# Altium footprint library Connector_PinHeader_1.27mm.PcbLib: 278 footprints (part 1 of 18)
Each footprint in its own frame and in the unit in brackets; x right, y up, seen from the top. Pads: shape width x height; smd on the part's side, far side on the other; paste and mask are expansions set on the pad; w line width, h text height; cw(c..) or ccw(c..) is an arc to the next point about the centre after c.
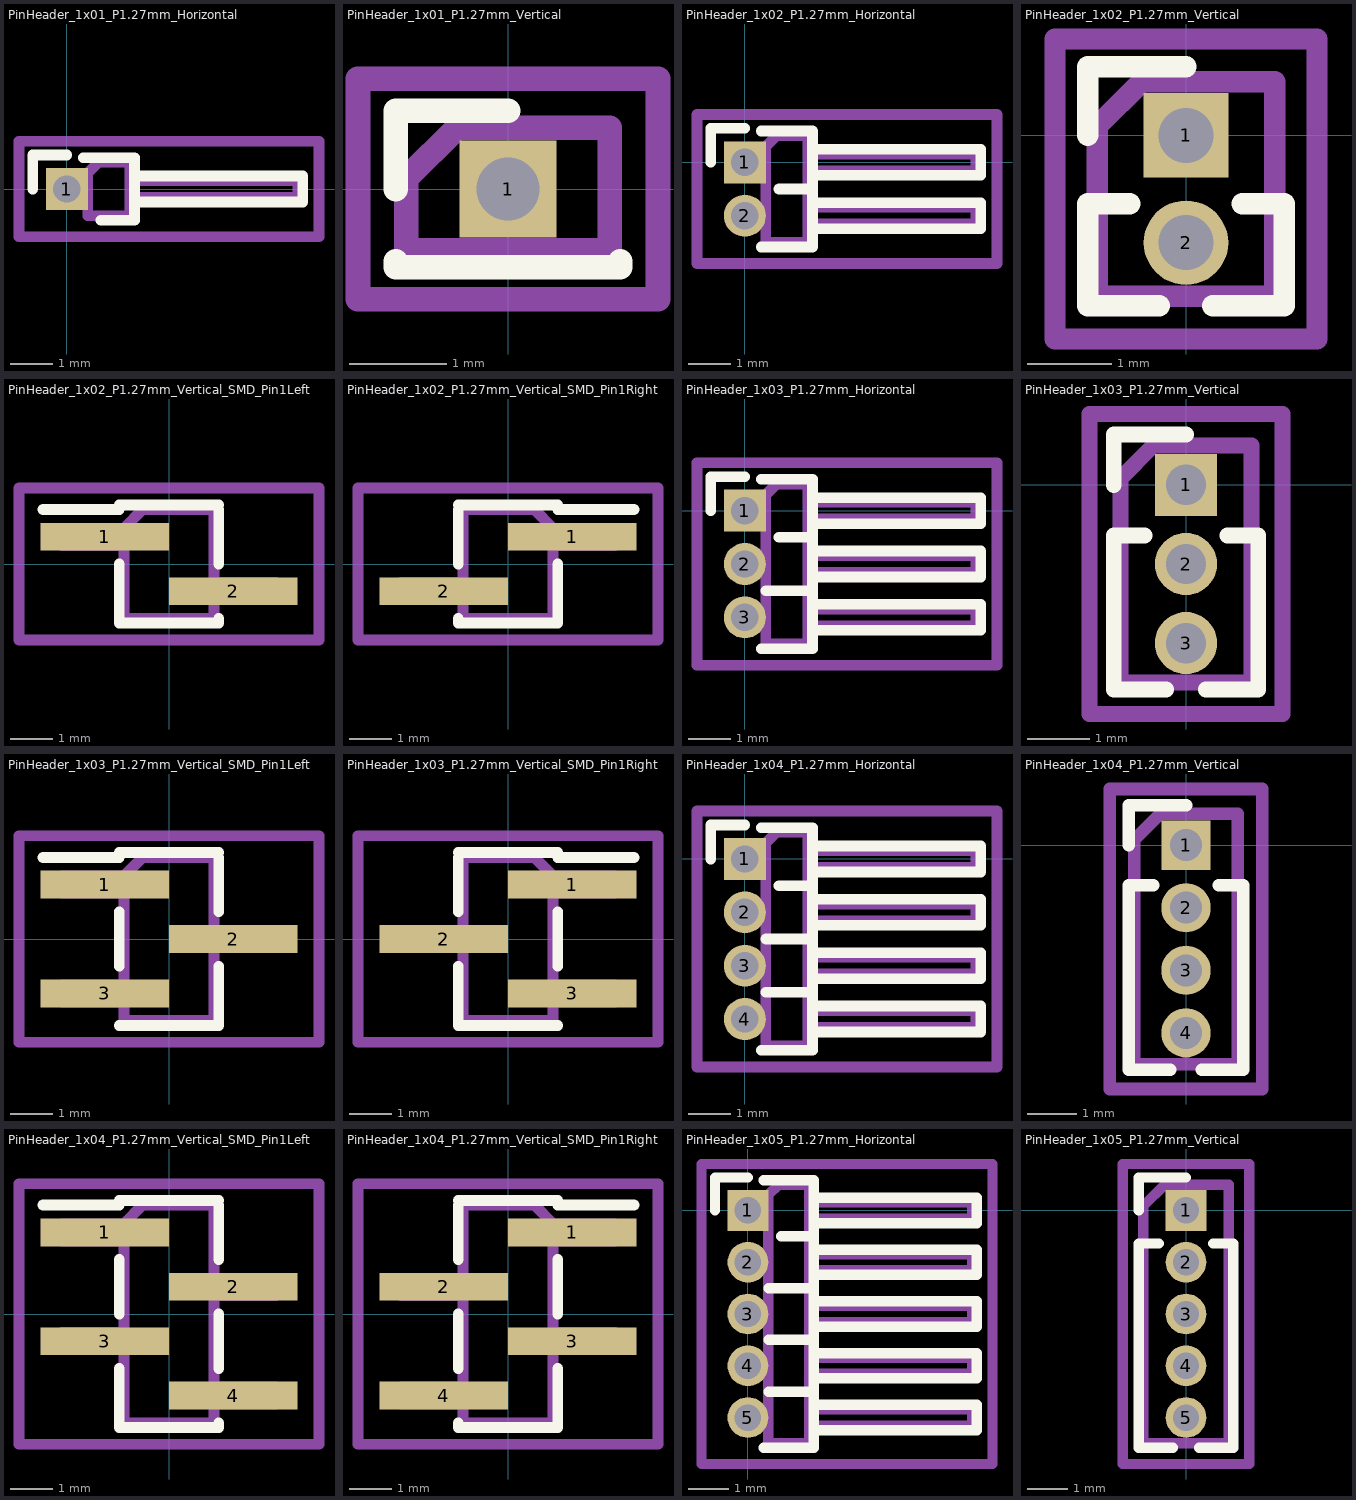
[diagram p0: the footprints below, top view; thin cyan lines are the x and y axes]

## PinHeader_1x01_P1.27mm_Horizontal [mm]
pads (1):
  rect 1x1 hole 0.65: 1(0,0)
F.SilkS:
  lines w0.254: -0.81,0 -0.81,0.81 0,0.81 ; 0.39,0.745 1.61,0.745 1.61,-0.745 0.81,-0.745 ; 1.61,-0.31 1.61,0.31 5.61,0.31 5.61,-0.31 1.61,-0.31
Top Assembly:
  lines w0.254: 0.5,-0.2 -0.2,-0.2 -0.2,0.2 0.5,0.2 ; 1.5,-0.2 5.5,-0.2 5.5,0.2 1.5,0.2 ; 0.5,-0.635 0.5,0.385 0.75,0.635 1.5,0.635 1.5,-0.635 0.5,-0.635
  text "'.Designator'" at 1.504,-2.428 h0.6
Top Courtyard:
  lines w0.254: -1.14,-1.14 -1.14,1.14 6,1.14 6,-1.14 -1.14,-1.14
Top Designator:
  text ".Designator" at -5.188,-0.598 h1.52

## PinHeader_1x01_P1.27mm_Vertical [mm]
pads (1):
  rect 1x1 hole 0.65: 1(0,0)
F.SilkS:
  lines w0.254: -1.16,-0.745 -1.16,-0.81 ; -1.16,0 -1.16,0.81 0,0.81 ; -0.667,-0.81 -1.16,-0.81 ; 0.667,-0.81 1.16,-0.81 ; 1.16,-0.745 1.16,-0.81 ; -1.16,-0.81 1.16,-0.81
Top Assembly:
  lines w0.254: -1.05,-0.635 1.05,-0.635 1.05,0.635 -0.525,0.635 -1.05,0.11 -1.05,-0.635
  text "'.Designator'" at 0.84,-4.047 h1
Top Courtyard:
  lines w0.254: -1.55,-1.14 1.55,-1.14 1.55,1.14 -1.55,1.14 -1.55,-1.14
Top Designator:
  text ".Designator" at -7.618,-0.658 h1.52

## PinHeader_1x02_P1.27mm_Horizontal [mm]
pads (2):
  rect 1x1 hole 0.65: 1(0,0)
  round 1 hole 0.65: 2(0,-1.27)
F.SilkS:
  lines w0.254: -0.81,0 -0.81,0.81 0,0.81 ; 0.39,-2.015 1.61,-2.015 1.61,0.745 0.39,0.745 ; 0.81,-0.635 1.61,-0.635 ; 1.61,-1.58 5.61,-1.58 5.61,-0.96 1.61,-0.96 ; 1.61,-0.31 5.61,-0.31 5.61,0.31 1.61,0.31 1.61,-0.31
Top Assembly:
  lines w0.254: 0.5,-1.47 -0.2,-1.47 -0.2,-1.07 0.5,-1.07 ; 0.5,-0.2 -0.2,-0.2 -0.2,0.2 0.5,0.2 ; 1.5,-1.47 5.5,-1.47 5.5,-1.07 1.5,-1.07 ; 1.5,-0.2 5.5,-0.2 5.5,0.2 1.5,0.2 ; 0.5,-1.905 1.5,-1.905 1.5,0.635 0.75,0.635 0.5,0.385 0.5,-1.905
  text "'.Designator'" at 1.504,-3.063 h0.6
Top Courtyard:
  lines w0.254: -1.14,-2.41 6,-2.41 6,1.14 -1.14,1.14 -1.14,-2.41
Top Designator:
  text ".Designator" at -5.188,-1.233 h1.52

## PinHeader_1x02_P1.27mm_Vertical [mm]
pads (2):
  rect 1x1 hole 0.65: 1(0,0)
  round 1 hole 0.65: 2(0,-1.27)
F.SilkS:
  lines w0.254: -1.16,0 -1.16,0.81 0,0.81 ; -0.667,-0.81 -1.16,-0.81 -1.16,-2.015 -0.318,-2.015 ; 0.318,-2.015 1.16,-2.015 1.16,-0.81 0.667,-0.81
Top Assembly:
  lines w0.254: -1.05,-1.905 1.05,-1.905 1.05,0.635 -0.525,0.635 -1.05,0.11 -1.05,-1.905
  text "'.Designator'" at 0.84,-4.682 h1
Top Courtyard:
  lines w0.254: -1.55,-2.41 1.55,-2.41 1.55,1.14 -1.55,1.14 -1.55,-2.41
Top Designator:
  text ".Designator" at -7.618,-1.293 h1.52

## PinHeader_1x02_P1.27mm_Vertical_SMD_Pin1Left [mm]
pads (2):
  rect 3x0.65 smd: 1(-1.5,0.635) 2(1.5,-0.635)
F.SilkS:
  lines w0.254: -2.94,1.27 -1.16,1.27 -1.16,1.38 1.16,1.38 ; -1.16,0 -1.16,-1.38 1.16,-1.38 1.16,-1.27 ; 1.16,0 1.16,1.27
Top Assembly:
  lines w0.254: -1.05,0.435 -2.5,0.435 -2.5,0.835 -1.05,0.835 ; 1.05,-0.835 2.5,-0.835 2.5,-0.435 1.05,-0.435 ; -1.05,0.835 -1.05,-1.27 1.05,-1.27 1.05,1.27 -0.615,1.27 -1.05,0.835
  text "'.Designator'" at 0.84,-4.047 h1
Top Courtyard:
  lines w0.254: -3.5,-1.77 3.5,-1.77 3.5,1.77 -3.5,1.77 -3.5,-1.77
Top Designator:
  text ".Designator" at -7.618,-0.658 h1.52

## PinHeader_1x02_P1.27mm_Vertical_SMD_Pin1Right [mm]
pads (2):
  rect 3x0.65 smd: 1(1.5,0.635) 2(-1.5,-0.635)
F.SilkS:
  lines w0.254: -1.16,-1.27 -1.16,-1.38 1.16,-1.38 1.16,0 ; -1.16,1.38 1.16,1.38 1.16,1.27 2.94,1.27 ; -1.16,0 -1.16,1.27 -1.16,0
Top Assembly:
  lines w0.254: -1.05,-0.835 -2.5,-0.835 -2.5,-0.435 -1.05,-0.435 ; 1.05,0.435 2.5,0.435 2.5,0.835 1.05,0.835 ; 1.05,0.835 1.05,-1.27 -1.05,-1.27 -1.05,1.27 0.615,1.27 1.05,0.835
  text "'.Designator'" at 0.84,-4.047 h1
Top Courtyard:
  lines w0.254: -3.5,-1.77 3.5,-1.77 3.5,1.77 -3.5,1.77 -3.5,-1.77
Top Designator:
  text ".Designator" at -7.618,-0.658 h1.52

## PinHeader_1x03_P1.27mm_Horizontal [mm]
pads (3):
  rect 1x1 hole 0.65: 1(0,0)
  round 1 hole 0.65: 2(0,-1.27) 3(0,-2.54)
F.SilkS:
  lines w0.254: -0.81,0 -0.81,0.81 0,0.81 ; 0.39,-3.285 1.61,-3.285 1.61,0.745 0.39,0.745 ; 0.503,-1.905 1.61,-1.905 ; 0.81,-0.635 1.61,-0.635 ; 1.61,-2.85 5.61,-2.85 5.61,-2.23 1.61,-2.23 ; 1.61,-1.58 5.61,-1.58 5.61,-0.96 1.61,-0.96 ; 1.61,-0.31 5.61,-0.31 5.61,0.31 1.61,0.31 1.61,-0.31
Top Assembly:
  lines w0.254: 0.5,-2.74 -0.2,-2.74 -0.2,-2.34 0.5,-2.34 ; 0.5,-1.47 -0.2,-1.47 -0.2,-1.07 0.5,-1.07 ; 0.5,-0.2 -0.2,-0.2 -0.2,0.2 0.5,0.2 ; 1.5,-2.74 5.5,-2.74 5.5,-2.34 1.5,-2.34 ; 1.5,-1.47 5.5,-1.47 5.5,-1.07 1.5,-1.07 ; 1.5,-0.2 5.5,-0.2 5.5,0.2 1.5,0.2 ; 0.5,-3.175 1.5,-3.175 1.5,0.635 0.75,0.635 0.5,0.385 0.5,-3.175
  text "'.Designator'" at 1.504,-3.698 h0.6
Top Courtyard:
  lines w0.254: -1.14,-3.68 6,-3.68 6,1.14 -1.14,1.14 -1.14,-3.68
Top Designator:
  text ".Designator" at -5.188,-1.778 h1.52

## PinHeader_1x03_P1.27mm_Vertical [mm]
pads (3):
  rect 1x1 hole 0.65: 1(0,0)
  round 1 hole 0.65: 2(0,-1.27) 3(0,-2.54)
F.SilkS:
  lines w0.254: -1.16,0 -1.16,0.81 0,0.81 ; -0.667,-0.81 -1.16,-0.81 -1.16,-3.285 -0.318,-3.285 ; 0.318,-3.285 1.16,-3.285 1.16,-0.81 0.667,-0.81
Top Assembly:
  lines w0.254: -1.05,-3.175 1.05,-3.175 1.05,0.635 -0.525,0.635 -1.05,0.11 -1.05,-3.175
  text "'.Designator'" at 0.84,-5.317 h1
Top Courtyard:
  lines w0.254: -1.55,-3.68 1.55,-3.68 1.55,1.14 -1.55,1.14 -1.55,-3.68
Top Designator:
  text ".Designator" at -7.618,-1.928 h1.52

## PinHeader_1x03_P1.27mm_Vertical_SMD_Pin1Left [mm]
pads (3):
  rect 3x0.65 smd: 1(-1.5,1.27) 2(1.5,0) 3(-1.5,-1.27)
F.SilkS:
  lines w0.254: -2.94,1.905 -1.16,1.905 -1.16,2.015 1.16,2.015 ; -1.16,-2.015 1.16,-2.015 ; -1.16,-0.635 -1.16,0.635 ; 1.16,-1.905 1.16,-2.015 ; 1.16,-0.635 1.16,-2.015 ; 1.16,0.635 1.16,1.905
Top Assembly:
  lines w0.254: -1.05,-1.47 -2.5,-1.47 -2.5,-1.07 -1.05,-1.07 ; -1.05,1.07 -2.5,1.07 -2.5,1.47 -1.05,1.47 ; 1.05,-0.2 2.5,-0.2 2.5,0.2 1.05,0.2 ; -1.05,1.47 -1.05,-1.905 1.05,-1.905 1.05,1.905 -0.615,1.905 -1.05,1.47
  text "'.Designator'" at 0.84,-4.047 h1
Top Courtyard:
  lines w0.254: -3.5,-2.41 3.5,-2.41 3.5,2.41 -3.5,2.41 -3.5,-2.41
Top Designator:
  text ".Designator" at -7.618,-0.658 h1.52

## PinHeader_1x03_P1.27mm_Vertical_SMD_Pin1Right [mm]
pads (3):
  rect 3x0.65 smd: 1(1.5,1.27) 2(-1.5,0) 3(1.5,-1.27)
F.SilkS:
  lines w0.254: -1.16,-1.905 -1.16,-2.015 ; -1.16,-0.635 -1.16,-2.015 ; -1.16,2.015 1.16,2.015 1.16,1.905 2.94,1.905 ; 1.16,-2.015 -1.16,-2.015 ; 1.16,-0.635 1.16,0.635 ; -1.16,0.635 -1.16,1.905 -1.16,0.635
Top Assembly:
  lines w0.254: -1.05,-0.2 -2.5,-0.2 -2.5,0.2 -1.05,0.2 ; 1.05,-1.47 2.5,-1.47 2.5,-1.07 1.05,-1.07 ; 1.05,1.07 2.5,1.07 2.5,1.47 1.05,1.47 ; 1.05,1.47 1.05,-1.905 -1.05,-1.905 -1.05,1.905 0.615,1.905 1.05,1.47
  text "'.Designator'" at 0.84,-4.047 h1
Top Courtyard:
  lines w0.254: -3.5,-2.41 3.5,-2.41 3.5,2.41 -3.5,2.41 -3.5,-2.41
Top Designator:
  text ".Designator" at -7.618,-0.658 h1.52

## PinHeader_1x04_P1.27mm_Horizontal [mm]
pads (4):
  rect 1x1 hole 0.65: 1(0,0)
  round 1 hole 0.65: 2(0,-1.27) 3(0,-2.54) 4(0,-3.81)
F.SilkS:
  lines w0.254: -0.81,0 -0.81,0.81 0,0.81 ; 0.39,-4.555 1.61,-4.555 1.61,0.745 0.39,0.745 ; 0.503,-3.175 1.61,-3.175 ; 0.503,-1.905 1.61,-1.905 ; 0.81,-0.635 1.61,-0.635 ; 1.61,-4.12 5.61,-4.12 5.61,-3.5 1.61,-3.5 ; 1.61,-2.85 5.61,-2.85 5.61,-2.23 1.61,-2.23 ; 1.61,-1.58 5.61,-1.58 5.61,-0.96 1.61,-0.96 ; 1.61,-0.31 5.61,-0.31 5.61,0.31 1.61,0.31 1.61,-0.31
Top Assembly:
  lines w0.254: 0.5,-4.01 -0.2,-4.01 -0.2,-3.61 0.5,-3.61 ; 0.5,-2.74 -0.2,-2.74 -0.2,-2.34 0.5,-2.34 ; 0.5,-1.47 -0.2,-1.47 -0.2,-1.07 0.5,-1.07 ; 0.5,-0.2 -0.2,-0.2 -0.2,0.2 0.5,0.2 ; 1.5,-4.01 5.5,-4.01 5.5,-3.61 1.5,-3.61 ; 1.5,-2.74 5.5,-2.74 5.5,-2.34 1.5,-2.34 ; 1.5,-1.47 5.5,-1.47 5.5,-1.07 1.5,-1.07 ; 1.5,-0.2 5.5,-0.2 5.5,0.2 1.5,0.2 ; 0.5,-4.445 1.5,-4.445 1.5,0.635 0.75,0.635 0.5,0.385 0.5,-4.445
  text "'.Designator'" at 1.504,-4.333 h0.6
Top Courtyard:
  lines w0.254: -1.14,-4.95 6,-4.95 6,1.14 -1.14,1.14 -1.14,-4.95
Top Designator:
  text ".Designator" at -5.188,-2.413 h1.52

## PinHeader_1x04_P1.27mm_Vertical [mm]
pads (4):
  rect 1x1 hole 0.65: 1(0,0)
  round 1 hole 0.65: 2(0,-1.27) 3(0,-2.54) 4(0,-3.81)
F.SilkS:
  lines w0.254: -1.16,0 -1.16,0.81 0,0.81 ; -0.667,-0.81 -1.16,-0.81 -1.16,-4.555 -0.318,-4.555 ; 0.318,-4.555 1.16,-4.555 1.16,-0.81 0.667,-0.81
Top Assembly:
  lines w0.254: -1.05,-4.445 1.05,-4.445 1.05,0.635 -0.525,0.635 -1.05,0.11 -1.05,-4.445
  text "'.Designator'" at 0.84,-5.952 h1
Top Courtyard:
  lines w0.254: -1.55,-4.95 1.55,-4.95 1.55,1.14 -1.55,1.14 -1.55,-4.95
Top Designator:
  text ".Designator" at -7.618,-2.563 h1.52

## PinHeader_1x04_P1.27mm_Vertical_SMD_Pin1Left [mm]
pads (4):
  rect 3x0.65 smd: 1(-1.5,1.905) 2(1.5,0.635) 3(-1.5,-0.635) 4(1.5,-1.905)
F.SilkS:
  lines w0.254: -2.94,2.54 -1.16,2.54 -1.16,2.65 1.16,2.65 ; -1.16,-1.27 -1.16,-2.65 1.16,-2.65 1.16,-2.54 ; -1.16,0 -1.16,1.27 ; 1.16,-1.27 1.16,0 ; 1.16,1.27 1.16,2.54
Top Assembly:
  lines w0.254: -1.05,-0.835 -2.5,-0.835 -2.5,-0.435 -1.05,-0.435 ; -1.05,1.705 -2.5,1.705 -2.5,2.105 -1.05,2.105 ; 1.05,-2.105 2.5,-2.105 2.5,-1.705 1.05,-1.705 ; 1.05,0.435 2.5,0.435 2.5,0.835 1.05,0.835 ; -1.05,2.105 -1.05,-2.54 1.05,-2.54 1.05,2.54 -0.615,2.54 -1.05,2.105
  text "'.Designator'" at 0.84,-4.047 h1
Top Courtyard:
  lines w0.254: -3.5,-3.04 3.5,-3.04 3.5,3.04 -3.5,3.04 -3.5,-3.04
Top Designator:
  text ".Designator" at -7.618,-0.658 h1.52

## PinHeader_1x04_P1.27mm_Vertical_SMD_Pin1Right [mm]
pads (4):
  rect 3x0.65 smd: 1(1.5,1.905) 2(-1.5,0.635) 3(1.5,-0.635) 4(-1.5,-1.905)
F.SilkS:
  lines w0.254: -1.16,-2.54 -1.16,-2.65 1.16,-2.65 1.16,-1.27 ; -1.16,-1.27 -1.16,0 ; -1.16,2.65 1.16,2.65 1.16,2.54 2.94,2.54 ; 1.16,0 1.16,1.27 ; -1.16,1.27 -1.16,2.54 -1.16,1.27
Top Assembly:
  lines w0.254: -1.05,-2.105 -2.5,-2.105 -2.5,-1.705 -1.05,-1.705 ; -1.05,0.435 -2.5,0.435 -2.5,0.835 -1.05,0.835 ; 1.05,-0.835 2.5,-0.835 2.5,-0.435 1.05,-0.435 ; 1.05,1.705 2.5,1.705 2.5,2.105 1.05,2.105 ; 1.05,2.105 1.05,-2.54 -1.05,-2.54 -1.05,2.54 0.615,2.54 1.05,2.105
  text "'.Designator'" at 0.84,-4.047 h1
Top Courtyard:
  lines w0.254: -3.5,-3.04 3.5,-3.04 3.5,3.04 -3.5,3.04 -3.5,-3.04
Top Designator:
  text ".Designator" at -7.618,-0.658 h1.52

## PinHeader_1x05_P1.27mm_Horizontal [mm]
pads (5):
  rect 1x1 hole 0.65: 1(0,0)
  round 1 hole 0.65: 2(0,-1.27) 3(0,-2.54) 4(0,-3.81) 5(0,-5.08)
F.SilkS:
  lines w0.254: -0.81,0 -0.81,0.81 0,0.81 ; 0.39,-5.825 1.61,-5.825 1.61,0.745 0.39,0.745 ; 0.503,-4.445 1.61,-4.445 ; 0.503,-3.175 1.61,-3.175 ; 0.503,-1.905 1.61,-1.905 ; 0.81,-0.635 1.61,-0.635 ; 1.61,-5.39 5.61,-5.39 5.61,-4.77 1.61,-4.77 ; 1.61,-4.12 5.61,-4.12 5.61,-3.5 1.61,-3.5 ; 1.61,-2.85 5.61,-2.85 5.61,-2.23 1.61,-2.23 ; 1.61,-1.58 5.61,-1.58 5.61,-0.96 1.61,-0.96 ; 1.61,-0.31 5.61,-0.31 5.61,0.31 1.61,0.31 1.61,-0.31
Top Assembly:
  lines w0.254: 0.5,-5.28 -0.2,-5.28 -0.2,-4.88 0.5,-4.88 ; 0.5,-4.01 -0.2,-4.01 -0.2,-3.61 0.5,-3.61 ; 0.5,-2.74 -0.2,-2.74 -0.2,-2.34 0.5,-2.34 ; 0.5,-1.47 -0.2,-1.47 -0.2,-1.07 0.5,-1.07 ; 0.5,-0.2 -0.2,-0.2 -0.2,0.2 0.5,0.2 ; 1.5,-5.28 5.5,-5.28 5.5,-4.88 1.5,-4.88 ; 1.5,-4.01 5.5,-4.01 5.5,-3.61 1.5,-3.61 ; 1.5,-2.74 5.5,-2.74 5.5,-2.34 1.5,-2.34 ; 1.5,-1.47 5.5,-1.47 5.5,-1.07 1.5,-1.07 ; 1.5,-0.2 5.5,-0.2 5.5,0.2 1.5,0.2 ; 0.5,-5.715 1.5,-5.715 1.5,0.635 0.75,0.635 0.5,0.385 0.5,-5.715
  text "'.Designator'" at 1.504,-4.968 h0.6
Top Courtyard:
  lines w0.254: -1.14,-6.22 6,-6.22 6,1.14 -1.14,1.14 -1.14,-6.22
Top Designator:
  text ".Designator" at -5.188,-3.048 h1.52

## PinHeader_1x05_P1.27mm_Vertical [mm]
pads (5):
  rect 1x1 hole 0.65: 1(0,0)
  round 1 hole 0.65: 2(0,-1.27) 3(0,-2.54) 4(0,-3.81) 5(0,-5.08)
F.SilkS:
  lines w0.254: -1.16,0 -1.16,0.81 0,0.81 ; -0.667,-0.81 -1.16,-0.81 -1.16,-5.825 -0.318,-5.825 ; 0.318,-5.825 1.16,-5.825 1.16,-0.81 0.667,-0.81
Top Assembly:
  lines w0.254: -1.05,-5.715 1.05,-5.715 1.05,0.635 -0.525,0.635 -1.05,0.11 -1.05,-5.715
  text "'.Designator'" at 0.84,-6.587 h1
Top Courtyard:
  lines w0.254: -1.55,-6.22 1.55,-6.22 1.55,1.14 -1.55,1.14 -1.55,-6.22
Top Designator:
  text ".Designator" at -7.618,-3.198 h1.52